# Altium footprint library PcbLib1.PcbLib: 5 footprints
Each footprint in its own frame and in the unit in brackets; x right, y up, seen from the top. Pads: shape width x height; smd on the part's side, far side on the other; paste and mask are expansions set on the pad; w line width, h text height; cw(c..) or ccw(c..) is an arc to the next point about the centre after c.
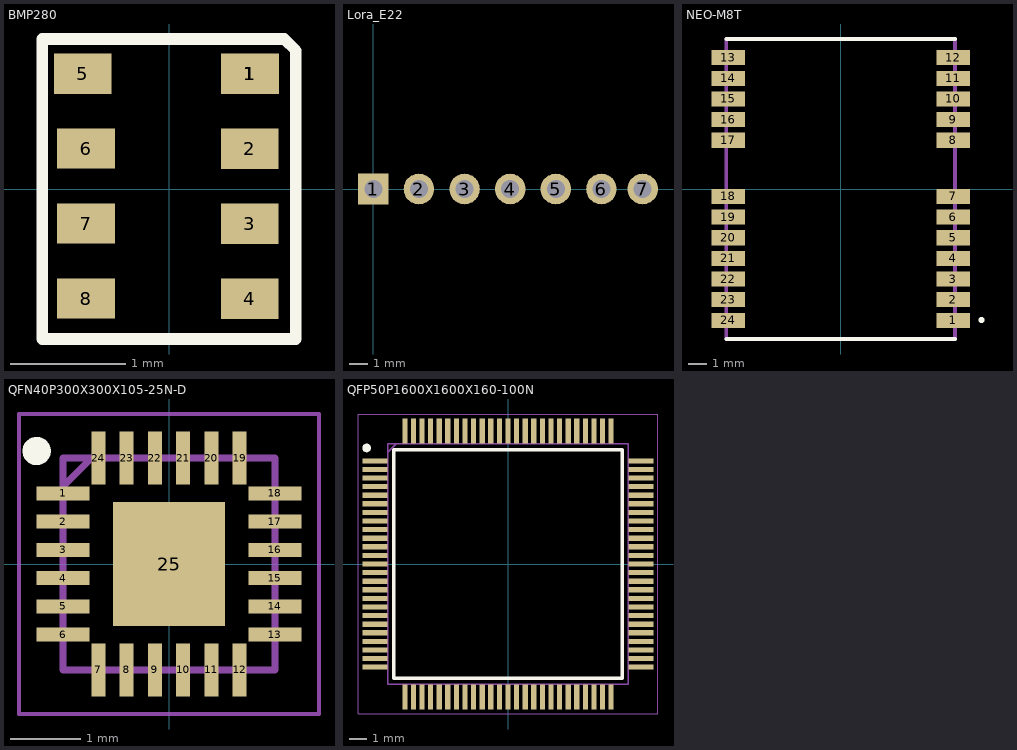
[diagram p0: the footprints below, top view; thin cyan lines are the x and y axes]

## BMP280 [mm]
pads (11):
  rect 0.5x0.35 smd: 1(0.7,1) 1(0.7,1) 1(0.703,1) 1(0.703,1) 2(0.7,0.35) 3(0.7,-0.3) 4(0.7,-0.95) 5(-0.747,1) 6(-0.719,0.351) 7(-0.719,-0.299) 8(-0.719,-0.949)
Top Overlay:
  lines w0.1: -1.1,-1.3 1.1,-1.3 1.1,1.2 1,1.3 -1.1,1.3 -1.1,-1.3
3D body "User Library-BST-BMP280.step": height 0.9, standoff -0.1, extent -1,-1.25 1,1.25

## Lora_E22 [mm]
pads (7):
  rect 1.7x1.7 hole 1: 1(0,0)
  round 1.7 hole 1: 2(2.54,0) 3(5.08,0) 4(7.62,0) 5(10.16,0) 6(12.7,0) 7(15,0)
3D body "E32-868T30D_Assembly_with_All_Headers.STEP": height 6.57, standoff -8.09, extent -4.5,-1.5 19.5,54.2

## NEO-M8T [mm]
pads (24):
  rect 1.8x0.8 smd: 1(6,-7) 2(6,-5.9) 3(6,-4.8) 4(6,-3.7) 5(6,-2.6) 6(6,-1.5) 7(6,-0.4) 8(6,2.6) 9(6,3.7) 10(6,4.8) 11(6,5.9) 12(6,7) 13(-6,7) 14(-6,5.9) 15(-6,4.8) 16(-6,3.7) 17(-6,2.6) 18(-6,-0.4) 19(-6,-1.5) 20(-6,-2.6) 21(-6,-3.7) 22(-6,-4.8) 23(-6,-5.9) 24(-6,-7)
Top Overlay:
  circle w0.2: c7.514,-6.988 r0.062
  lines w0.2: -6.1,-8 6.1,-8 ; -6.1,8 6.1,8
Mechanical 13:
  lines w0.2: -6.1,-8 -6.1,8 6.1,8 6.1,-8 -6.1,-8
3D body "User Library-NEO-M8Q-1.STEP": height 1.93, standoff -0.45, extent -6.096,-8 6.104,8

## QFN40P300X300X105-25N-D [mm]
pads (25):
  rect 0.75x0.2 smd: 1(-1.5,1) 2(-1.5,0.6) 3(-1.5,0.2) 4(-1.5,-0.2) 5(-1.5,-0.6) 6(-1.5,-1) 13(1.5,-1) 14(1.5,-0.6) 15(1.5,-0.2) 16(1.5,0.2) 17(1.5,0.6) 18(1.5,1)
  rect 0.2x0.75 smd: 7(-1,-1.5) 8(-0.6,-1.5) 9(-0.2,-1.5) 10(0.2,-1.5) 11(0.6,-1.5) 12(1,-1.5) 19(1,1.5) 20(0.6,1.5) 21(0.2,1.5) 22(-0.2,1.5) 23(-0.6,1.5) 24(-1,1.5)
  rect 1.59x1.75 smd: 25(0,0)
Top Overlay:
  circle w0.2: c-1.875,1.6 r0.1
Mechanical 13:
  lines w0.1: -1.5,1.1 -1.1,1.5 ; -1.5,-1.5 1.5,-1.5 1.5,1.5 -1.5,1.5 -1.5,-1.5
Mechanical 15:
  lines w0.05: -2.125,-2.125 2.125,-2.125 2.125,2.125 -2.125,2.125 -2.125,-2.125
3D body "MPU-9250.stp": height 0.98, standoff -0.02, extent -1.5,-1.5 1.5,1.5

## QFP50P1600X1600X160-100N [mm]
pads (100):
  rect 1.475x0.3 smd: 1(-7.738,6) 2(-7.738,5.5) 3(-7.738,5) 4(-7.738,4.5) 5(-7.738,4) 6(-7.738,3.5) 7(-7.738,3) 8(-7.738,2.5) 9(-7.738,2) 10(-7.738,1.5) 11(-7.738,1) 12(-7.738,0.5) 13(-7.738,0) 14(-7.738,-0.5) 15(-7.738,-1) 16(-7.738,-1.5) 17(-7.738,-2) 18(-7.738,-2.5) 19(-7.738,-3) 20(-7.738,-3.5) 21(-7.738,-4) 22(-7.738,-4.5) 23(-7.738,-5) 24(-7.738,-5.5) 25(-7.738,-6) 51(7.738,-6) 52(7.738,-5.5) 53(7.738,-5) 54(7.738,-4.5) 55(7.738,-4) 56(7.738,-3.5) 57(7.738,-3) 58(7.738,-2.5) 59(7.738,-2) 60(7.738,-1.5) 61(7.738,-1) 62(7.738,-0.5) 63(7.738,0) 64(7.738,0.5) 65(7.738,1) 66(7.738,1.5) 67(7.738,2) 68(7.738,2.5) 69(7.738,3) 70(7.738,3.5) 71(7.738,4) 72(7.738,4.5) 73(7.738,5) 74(7.738,5.5) 75(7.738,6)
  rect 0.3x1.475 smd: 26(-6,-7.738) 27(-5.5,-7.738) 28(-5,-7.738) 29(-4.5,-7.738) 30(-4,-7.738) 31(-3.5,-7.738) 32(-3,-7.738) 33(-2.5,-7.738) 34(-2,-7.738) 35(-1.5,-7.738) 36(-1,-7.738) 37(-0.5,-7.738) 38(0,-7.738) 39(0.5,-7.738) 40(1,-7.738) 41(1.5,-7.738) 42(2,-7.738) 43(2.5,-7.738) 44(3,-7.738) 45(3.5,-7.738) 46(4,-7.738) 47(4.5,-7.738) 48(5,-7.738) 49(5.5,-7.738) 50(6,-7.738) 76(6,7.738) 77(5.5,7.738) 78(5,7.738) 79(4.5,7.738) 80(4,7.738) 81(3.5,7.738) 82(3,7.738) 83(2.5,7.738) 84(2,7.738) 85(1.5,7.738) 86(1,7.738) 87(0.5,7.738) 88(0,7.738) 89(-0.5,7.738) 90(-1,7.738) 91(-1.5,7.738) 92(-2,7.738) 93(-2.5,7.738) 94(-3,7.738) 95(-3.5,7.738) 96(-4,7.738) 97(-4.5,7.738) 98(-5,7.738) 99(-5.5,7.738) 100(-6,7.738)
Top Overlay:
  circle w0.25: c-8.225,6.75 r0.125
  lines w0.2: -6.65,-6.65 -6.65,6.65 6.65,6.65 6.65,-6.65 -6.65,-6.65
Mechanical 13:
  lines w0.1: -7,6.5 -6.5,7 ; -7,-7 -7,7 7,7 7,-7 -7,-7
Mechanical 15:
  lines w0.05: -8.725,-8.725 -8.725,8.725 8.725,8.725 8.725,-8.725 -8.725,-8.725
3D body "STM32F407VGT6TR.stp": height 1.6, standoff 0, extent -8,-8 8,8